# Altium footprint library MOLEX-04_90.PcbLib: 1 footprints
Each footprint in its own frame and in the unit in brackets; x right, y up, seen from the top. Pads: shape width x height; smd on the part's side, far side on the other; paste and mask are expansions set on the pad; w line width, h text height; cw(c..) or ccw(c..) is an arc to the next point about the centre after c.
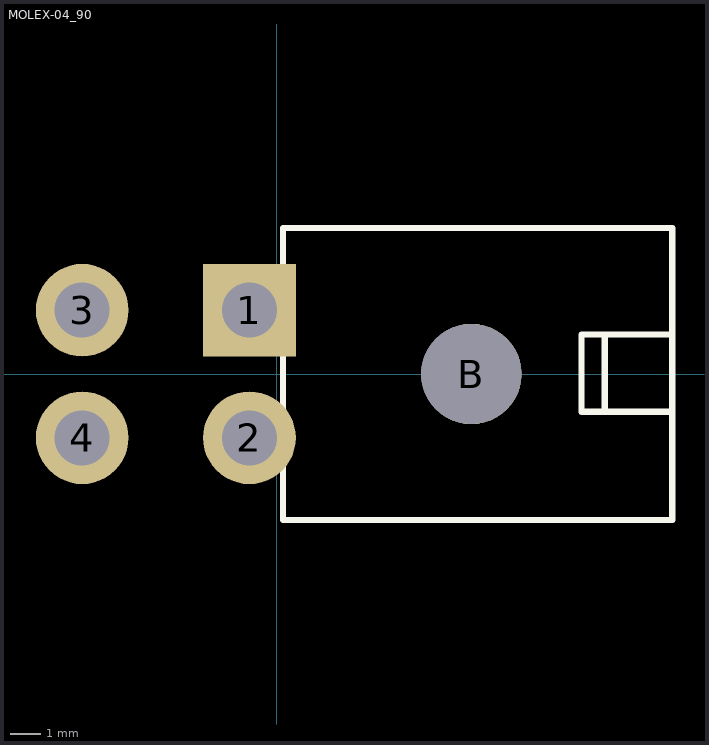
[diagram p0: the footprint, top view; thin cyan lines are the x and y axes]

## MOLEX-04_90 [mil]
pads (5):
  rect 120x120 hole 71: 1(-35.43,82.68)
  round 120 hole 71: 2(-35.43,-82.68) 3(-251.97,82.68) 4(-251.97,-82.68)
  round 130 hole 130 unplated: B(251.97,0)
TopOverlay:
  lines w8: 424.57,-48.82 424.57,51.18 ; 511.81,-48.82 394.57,-48.82 394.57,51.18 511.81,51.18 ; 7.87,-188.98 511.81,-188.98 511.81,188.98 7.87,188.98 7.87,-188.98
3D body: height 440.94, standoff 7.87, extent -129.92,-204.72 511.81,204.72